# Altium footprint library D24V5xA.PcbLib: 1 footprints
Each footprint in its own frame and in the unit in brackets; x right, y up, seen from the top. Pads: shape width x height; smd on the part's side, far side on the other; paste and mask are expansions set on the pad; w line width, h text height; cw(c..) or ccw(c..) is an arc to the next point about the centre after c.
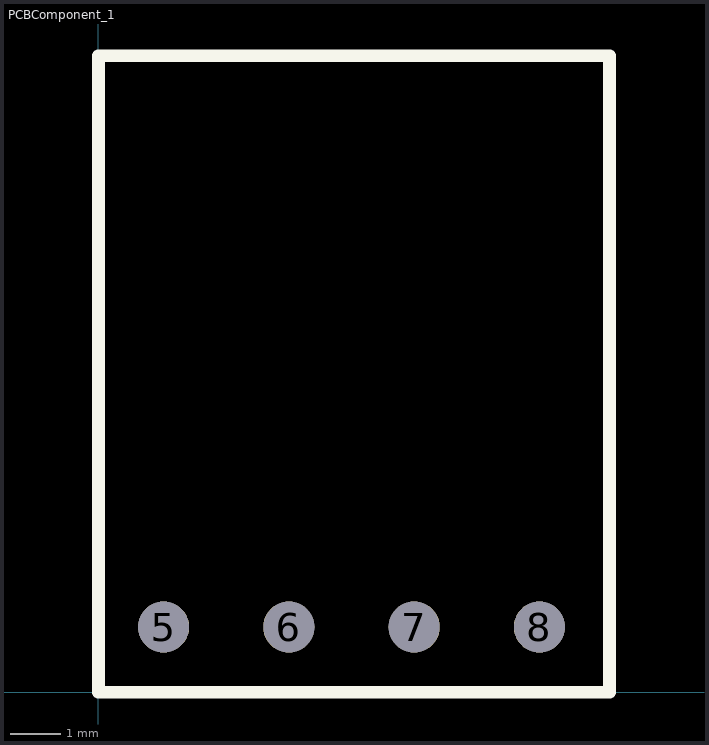
[diagram p0: the footprint, top view; thin cyan lines are the x and y axes]

## PCBComponent_1 [mm]
pads (4):
  round 1.02 hole 1.02: 5(1.3,1.3) 6(3.8,1.3) 7(6.3,1.3) 8(8.8,1.3)
Top Overlay:
  lines w0.254: 0,0 0,12.7 10.2,12.7 10.2,0 0,0
3D body "d24v5fx-step-down-voltage-regulator.step": height 2.82, standoff 0, extent 0.04,0 10.2,12.7